# EAGLE library part MRF89XAM9A (library 00_cody)
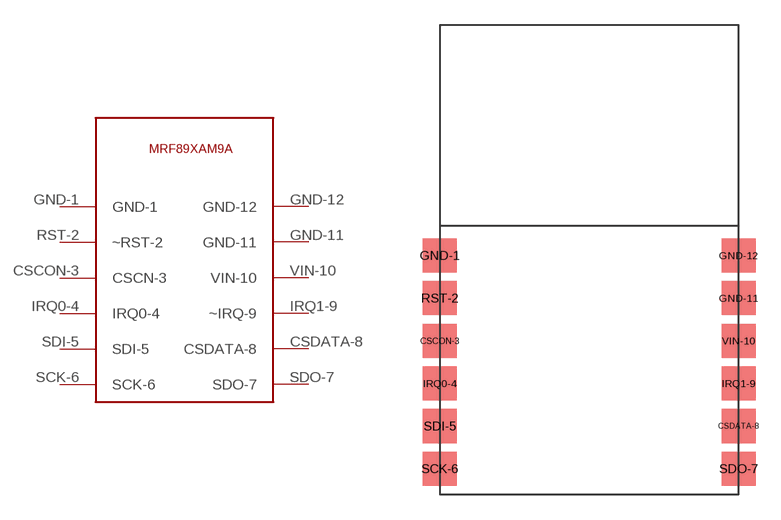
[diagram p144: symbol with the pads of MRF89XAM9A-PACKAGE; footprint MRF89XAM9A-PACKAGE]

Designator prefix -

## MRF89XAM9A  [MRF89XAM9A-PACKAGE]
CSCON-3  CSCN-3
CSDATA-8  CSDATA-8
GND-1  GND-1
GND-11  GND-11
GND-12  GND-12
IRQ0-4  IRQ0-4
IRQ1-9  ~IRQ-9
RST-2  ~RST-2
SCK-6  SCK-6
SDI-5  SDI-5
SDO-7  SDO-7
VIN-10  VIN-10

## Footprint MRF89XAM9A-PACKAGE (pad centres in mm)
smd 2.032 x 2.032: CSCON-3 0,9.144; CSDATA-8 17.78,4.064; GND-1 0,14.224; GND-11 17.78,11.684; GND-12 17.78,14.224; IRQ0-4 0,6.604; IRQ1-9 17.78,6.604; RST-2 0,11.684; SCK-6 0,1.524; SDI-5 0,4.064; SDO-7 17.78,1.524; VIN-10 17.78,9.144